# Altium schematic symbol library SamlibSCH.SchLib: 216 symbols (part 4 of 5)
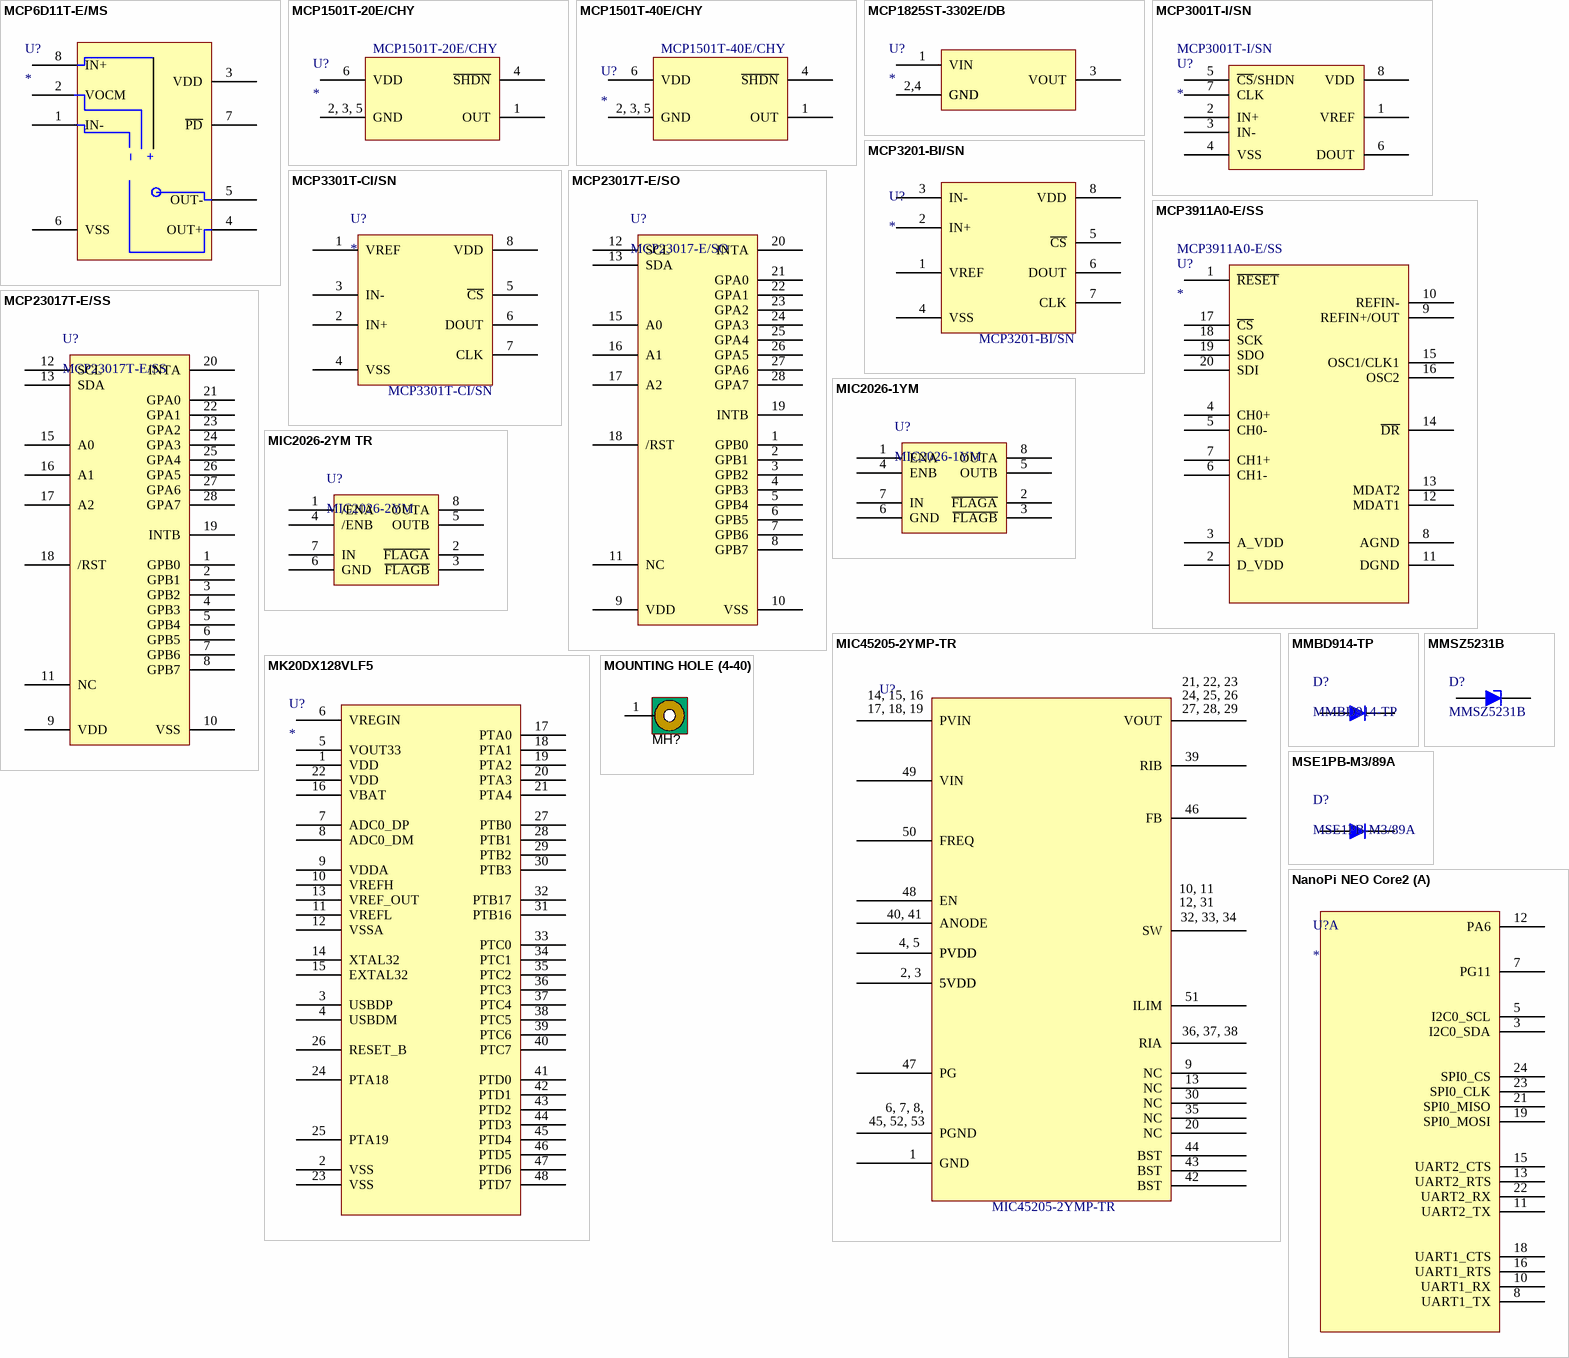
[diagram p10: symbols MCP6D11T-E/MS to NanoPi NEO Core2]

## MCP3001T-I/SN
designator U?  Manufacturer Part Number: MCP3001T-I/SN
IC ADC 10BIT 2.7V 1CH SPI 8-SOIC; Manufacturer: Microchip; Number of Channels: 1; Max Supply Voltage: 5.5V; Resolution: 10b; Number of Bits: 10; Sampling Rate: 200KS/s; Polarity: Unipolar; Integral Nonlinearity (INL): 1LSB; Supplier 1: Digi-Key; Supplier Part Number 1: MCP3001T-I/SNCT-ND; Stock 1: 8173; Pricing 1: 1 = 1.71000, 25 = 1.42160, 100 = 1.29780 (USD); RoHS: Yes; Mount: Surface Mount; Case/Package: SOIC; Number of Pins: 8; Min Operating Temperature: -40°C; Max Operating Temperature: 85°C; Packaging: Tape and Reel; Interface: SPI; Min Supply Voltage: 2.7V; Package Quantity: 3300; Number of Converters: 1; Number of Inputs: 1; Number of A/D Converters: 1; Number of Analog Inputs: 1; Number of Elements: 1; Conversion Rate: 200KS/s; Radiation Hardening: No; Lead Free: Lead Free; ComponentLink1URL: https://datasheet.ciiva.com/4777/21293b-22469-4777280.pdf?src-supplier=Mouser; ComponentLink1Description: https://datasheet.ciiva.com/4777/21293b-22469-4777280.pdf?src-supplier=Mouser; ComponentLink2URL: https://datasheet.ciiva.com/3039/21293c-3039223.pdf?src-supplier=Avnet; ComponentLink2Description: https://datasheet.ciiva.com/3039/21293c-3039223.pdf?src-supplier=Avnet; ComponentLink3URL: https://datasheet.ciiva.com/6666/21293c-6666423.pdf?src-supplier=Digi-Key; ComponentLink3Description: https://datasheet.ciiva.com/6666/21293c-6666423.pdf?src-supplier=Digi-Key; ComponentLink4URL: https://datasheet.ciiva.com/6666/21293c-6666425.pdf?src-supplier=Digi-Key; ComponentLink4Description: https://datasheet.ciiva.com/6666/21293c-6666425.pdf?src-supplier=Digi-Key; ComponentLink5URL: https://datasheet.ciiva.com/16454/filehandler-aspxddocname-en011533-16454217.pdf?src-supplier=Future+Electronics; ComponentLink5Description: https://datasheet.ciiva.com/16454/filehandler-aspxddocname-en011533-16454217.pdf?src-supplier=Future+Electronics; ComponentLink6URL: https://datasheet.ciiva.com/6666/21293c-6666427.pdf?src-supplier=Digi-Key; ComponentLink6Description: https://datasheet.ciiva.com/6666/21293c-6666427.pdf?src-supplier=Digi-Key
footprint SOIC127P600X175-8N (SOIC, 8-Leads, Body 4.9x3.9mm (max), Pitch 1.27mm, IPC Medium Density)
pins: 1 VREF, 2 IN+, 3 IN-, 4 VSS, 5 ~{CS}/SHDN, 6 DOUT, 7 CLK, 8 VDD

## MCP3201-BI/SN
designator U?  Manufacturer Part Number: MCP3201-BI/SN
IC ADC 12BIT SAR 8SOIC; Manufacturer: Microchip; Sampling Rate: 100KS/s; Resolution: 12b; Polarity: Unipolar; Number of Analog Inputs: 1; Interface: SPI,Serial; Max Supply Voltage: 5.5V; Min Supply Voltage: 2.7V; Integral Nonlinearity (INL): 1LSB; Number of Bits: 12; Signal to Noise Ratio (SNR): 72dB; Nominal Supply Current: 300uA; Supplier 1: Digi-Key; Stock 1: 141; Pricing 1: 1=2.66000, 25=2.21000 (USD); RoHS: Yes; Mount: Surface Mount; Case/Package: SOIC; Number of Pins: 8; Min Operating Temperature: -40°C; Max Operating Temperature: 85°C; Package Quantity: 100; Number of Channels: 1; Packaging: Rail/Tube; Number of A/D Converters: 1; Number of Elements: 1; Number of Converters: 1; Conversion Rate: 100KS/s; Number of Inputs: 1; Length: 4.9mm; Height: 1.25mm; Width: 3.9mm; Radiation Hardening: No; Lead Free: Lead Free; REACH SVHC: No SVHC; ComponentLink1URL: https://datasheet.ciiva.com/6666/21290f-6666208.pdf?src-supplier=Digi-Key; ComponentLink1Description: https://datasheet.ciiva.com/6666/21290f-6666208.pdf?src-supplier=Digi-Key; ComponentLink2URL: https://datasheet.ciiva.com/26922/getdatasheetpartid-774476-26922475.pdf?src-supplier=Verical; ComponentLink2Description: https://datasheet.ciiva.com/26922/getdatasheetpartid-774476-26922475.pdf?src-supplier=Verical; ComponentLink3URL: https://datasheet.ciiva.com/41459/001083117-da-01-en-ic-adc-12bit-mcp3201-bi-sn-soic-8-mcp-41459115.pdf?src-supplier=Conrad; ComponentLink3Description: https://datasheet.ciiva.com/41459/001083117-da-01-en-ic-adc-12bit-mcp3201-bi-sn-soic-8-mcp-41459115.pdf?src-supplier=Conrad; ComponentLink4URL: https://datasheet.ciiva.com/3039/21290f-3039236.pdf?src-supplier=Avnet; ComponentLink4Description: https://datasheet.ciiva.com/3039/21290f-3039236.pdf?src-supplier=Avnet; ComponentLink5URL: https://datasheet.ciiva.com/16376/filehandler-aspxddocname-en011279-16376377.pdf?src-supplier=Future+Electronics; ComponentLink5Description: https://datasheet.ciiva.com/16376/filehandler-aspxddocname-en011279-16376377.pdf?src-supplier=Future+Electronics; ComponentLink6URL: https://datasheet.ciiva.com/16625/21290f-16625769.pdf?src-supplier=Avnet+Europe; ComponentLink6Description: https://datasheet.ciiva.com/16625/21290f-16625769.pdf?src-supplier=Avnet+Europe; ComponentLink7URL: https://datasheet.ciiva.com/7647/1669366-7647998.pdf?src-supplier=Element14; ComponentLink7Description: https://datasheet.ciiva.com/7647/1669366-7647998.pdf?src-supplier=Element14; Supplier Part Number 1: MCP3201-BI/SN-ND
footprint SOIC127P600X175-8N (SOIC, 8-Leads, Body 4.9x3.9mm (max), Pitch 1.27mm, IPC Medium Density)
pins: 1 VREF, 2 IN+, 3 IN-, 4 VSS, 5 ~{CS}, 6 DOUT, 7 CLK, 8 VDD

## MCP3301T-CI/SN
designator U?  Manufacturer Part Number: MCP3301T-CI/SN
IC ADC 12BIT SAR 8SOIC; Manufacturer: Microchip; Interface: SPI,Serial; Sampling Rate: 100KS/s; Number of Analog Inputs: 1; Polarity: Bipolar; Min Supply Voltage: 2.7V; Max Supply Voltage: 5.5V; Number of Bits: 13; Resolution: 12b; Integral Nonlinearity (INL): 2LSB; Signal to Noise Ratio (SNR): 80.02dB; Output Voltage: 4.1V; Supplier: Digi-Key; Stock 1: 1402; Pricing 1: 1=2.27000, 25=1.89000 (USD); RoHS: Yes; Mount: Surface Mount; Case/Package: SOIC; Number of Pins: 8; Min Operating Temperature: -40°C; Max Operating Temperature: 85°C; Package Quantity: 3300; Packaging: Tape and Reel; Number of Channels: 1; Number of Converters: 1; Number of Inputs: 1; Number of A/D Converters: 1; Number of Elements: 1; Conversion Rate: 100KS/s; Radiation Hardening: No; Lead Free: Lead Free; ComponentLink1URL: https://datasheet.ciiva.com/16625/21700d-16625957.pdf?src-supplier=Avnet+Europe; ComponentLink1Description: https://datasheet.ciiva.com/16625/21700d-16625957.pdf?src-supplier=Avnet+Europe; ComponentLink2URL: https://datasheet.ciiva.com/8195/21700d-8195295.pdf?src-supplier=Avnet; ComponentLink2Description: https://datasheet.ciiva.com/8195/21700d-8195295.pdf?src-supplier=Avnet; Supplier Part Number: MCP3301T-CI/SNCT-ND
footprint SOIC127P600X175-8N (SOIC, 8-Leads, Body 4.9x3.9mm (max), Pitch 1.27mm, IPC Medium Density)
pins: 1 VREF, 2 IN+, 3 IN-, 4 VSS, 5 ~{CS}, 6 DOUT, 7 CLK, 8 VDD

## MCP3911A0-E/SS
designator U?  Manufacturer Part Number: MCP3911A0-E/SS
IC AFE 24BIT 125KSPS 2CH 20-SSOP; Manufacturer: Microchip; Number of Channels: 2; Interface: SPI; Min Supply Voltage: 2.7V; Operating Supply Voltage: 3.3V; Max Supply Voltage: 3.6V; Data Rate: 125Kbps; Number of Bits: 24; Resolution: 24b; Operating Supply Current: 4.4mA; Sampling Rate: 125KS/s; Reference Voltage: 1.2V; Max Power Dissipation: 8.9mW; Signal to Noise Ratio (SNR): 95dB; Parameter 1: *; Parameter 2: *; Supplier 1: Digi-Key; Supplier Part Number 1: MCP3911A0-E/SS-ND; Stock 1: 4305; Pricing 1: 1 = 2.00000, 25 = 1.66880, 100 = 1.51410 (USD); RoHS: Yes; Case/Package: SSOP; Number of Pins: 20; Contact Plating: Tin; Min Operating Temperature: -40°C; Max Operating Temperature: 125°C; Packaging: Rail/Tube; Package Quantity: 67; Number of Converters: 2; Number of A/D Converters: 2; Conversion Rate: 125KS/s; Type: General Purpose; Length: 7.5mm; Height: 1.85mm; Width: 5.6mm; Radiation Hardening: No; REACH SVHC: No SVHC; Lead Free: Lead Free; ComponentLink1URL: https://datasheet.ciiva.com/1176/1598778-1176946.pdf?src-supplier=Newark; ComponentLink1Description: https://datasheet.ciiva.com/1176/1598778-1176946.pdf?src-supplier=Newark; ComponentLink2URL: https://datasheet.ciiva.com/14667/0900766b811b5c3d-14667720.pdf?src-supplier=RSComponents; ComponentLink2Description: https://datasheet.ciiva.com/14667/0900766b811b5c3d-14667720.pdf?src-supplier=RSComponents; ComponentLink3URL: https://datasheet.ciiva.com/15152/getdatasheetpartid-761813-15152066.pdf?src-supplier=Verical; ComponentLink3Description: https://datasheet.ciiva.com/15152/getdatasheetpartid-761813-15152066.pdf?src-supplier=Verical; ComponentLink4URL: https://datasheet.ciiva.com/14118/mcp3911-v2-errata-eng-tds-14118182.pdf?src-supplier=Distrelec; ComponentLink4Description: https://datasheet.ciiva.com/14118/mcp3911-v2-errata-eng-tds-14118182.pdf?src-supplier=Distrelec; ComponentLink5URL: https://datasheet.ciiva.com/16293/filehandler-aspxddocname-en557697-16293563.pdf?src-supplier=Future+Electronics; ComponentLink5Description: https://datasheet.ciiva.com/16293/filehandler-aspxddocname-en557697-16293563.pdf?src-supplier=Future+Electronics; ComponentLink6URL: https://datasheet.ciiva.com/3026/22286a-3026716.pdf?src-supplier=Avnet; ComponentLink6Description: https://datasheet.ciiva.com/3026/22286a-3026716.pdf?src-supplier=Avnet; ComponentLink7URL: https://datasheet.ciiva.com/1167/22286a-1167485.pdf?src-supplier=Element14; ComponentLink7Description: https://datasheet.ciiva.com/1167/22286a-1167485.pdf?src-supplier=Element14; ComponentLink8URL: https://datasheet.ciiva.com/1941/22286a-1941409.pdf?src-supplier=Digi-Key; ComponentLink8Description: https://datasheet.ciiva.com/1941/22286a-1941409.pdf?src-supplier=Digi-Key
footprint SOP65P780X200-20L (SOP, 20-Leads, Body 7.20x5.30mm, Pitch 0.65mm, IPC High Density)
pins: 1 ~{RESET}, 2 D_VDD, 3 A_VDD, 4 CH0+, 5 CH0-, 6 CH1-, 7 CH1+, 8 AGND, 9 REFIN+/OUT, 10 REFIN-, 11 DGND, 12 MDAT1, 13 MDAT2, 14 ~{DR}, 15 OSC1/CLK1, 16 OSC2, 17 ~{CS}, 18 SCK, 19 SDO, 20 SDI

## MCP23017T-E/SO
designator U?, comment MCP23017-E/SO
IC I/O EXPANDER I2C 16B 28SOIC; Manufacturer: Microchip Technology; Number of I/O: 16; Interface: I²C; Interrupt Output: Yes; Output Type: Push-Pull; Current - Output Source/Sink: 25mA; Frequency - Clock: 1.7MHz; Voltage - Supply: 1.8 V ~ 5.5 V; Packaging: Tube; Features: POR; Operating Temperature: -40°C ~ 125°C; Mounting Type: Surface Mount; Package / Case: 28-SOIC (0.295", 7.50mm Width); Supplier Device Package: 28-SOIC; ComponentLink1URL: http://www.microchip.com/mymicrochip/filehandler.aspx?ddocname=en023709; ComponentLink1Description: http://www.microchip.com/mymicrochip/filehandler.aspx?ddocname=en023709; Supplier 1: Digi-Key; Supplier Part Number 1: MCP23017-E/SO-ND; Manufacturer Part Number: MCP23017-E/SO; RoHS: RoHS Compliant; Category: Integrated Circuits (ICs); Stock: 5139; Pricing: 1=1.2, 25=1, 100=0.91 (USD); Supplier 2: Mouser; Supplier Part Number 2: 579-MCP23017-E/SO
footprint SOIC127P1030X265-28N (SOIC, 28-Leads, Body 17.9x7.5mm (max), Pitch 1.27mm, IPC Medium Density)
pins: 1 GPB0, 2 GPB1, 3 GPB2, 4 GPB3, 5 GPB4, 6 GPB5, 7 GPB6, 8 GPB7, 9 VDD (power), 10 VSS (power), 11 NC, 12 SCL, 13 SDA, 15 A0, 16 A1, 17 A2, 18 /RST, 19 INTB, 20 INTA, 21 GPA0, 22 GPA1, 23 GPA2, 24 GPA3, 25 GPA4, 26 GPA5, 27 GPA6, 28 GPA7

## MCP23017T-E/SS
designator U?
IC I/O EXPANDER 16BIT I2C 28SSOP; Manufacturer: Microchip Technology; Number of I/O: 16; Interface: I²C; Interrupt Output: Yes; Output Type: Push-Pull; Current - Output Source/Sink: 25mA; Frequency - Clock: 1.7MHz; Voltage - Supply: 1.8 V ~ 5.5 V; Packaging: Cut Tape (CT); Features: POR; Operating Temperature: -40°C ~ 125°C; Mounting Type: Surface Mount; Package / Case: 28-SSOP (0.209", 5.30mm Width); Supplier Device Package: 28-SSOP; ComponentLink1URL: http://www.microchip.com/mymicrochip/filehandler.aspx?ddocname=en023709; ComponentLink1Description: http://www.microchip.com/mymicrochip/filehandler.aspx?ddocname=en023709; Supplier 1: Digi-Key; Supplier Part Number 1: MCP23017T-E/SSCT-ND; Manufacturer Part Number: MCP23017T-E/SS; RoHS: RoHS Compliant; Category: Integrated Circuits (ICs); Stock: 4856; Pricing: 1=1.26, 25=1.05, 100=0.95 (USD)
footprint SOP65P780X185-28L (SOP, 28-Leads, Body 10.20x5.30mm, Pitch 0.65mm, IPC High Density)
pins: 1 GPB0, 2 GPB1, 3 GPB2, 4 GPB3, 5 GPB4, 6 GPB5, 7 GPB6, 8 GPB7, 9 VDD (power), 10 VSS (power), 11 NC, 12 SCL, 13 SDA, 15 A0, 16 A1, 17 A2, 18 /RST, 19 INTB, 20 INTA, 21 GPA0, 22 GPA1, 23 GPA2, 24 GPA3, 25 GPA4, 26 GPA5, 27 GPA6, 28 GPA7

## MIC2026-1YM
designator U?
IC DISTRIBUTION SW DUAL 8-SOIC; Manufacturer: Microchip Technology; Switch Type: General Purpose; Number of Outputs: 2; Ratio - Input:Output: 1:2; Output Configuration: High Side; Output Type: N-Channel; Interface: On/Off; Voltage - Load: 2.7 V ~ 5.5 V; Voltage - Supply (Vcc/Vdd): Not Required; Current - Output (Max): 500mA; Rds On (Typ): 90 mOhm; Input Type: Non-Inverting; Fault Protection: Current Limiting (Fixed), Over Temperature, UVLO; Packaging: Tube; Features: Slew Rate Controlled, Status Flag; Operating Temperature: -40°C ~ 85°C (TA); Package / Case: 8-SOIC (0.154", 3.90mm Width); Supplier Device Package: 8-SOIC; ComponentLink1URL: http://www.micrel.com/_PDF/mic2026.pdf; ComponentLink1Description: http://www.micrel.com/_PDF/mic2026.pdf; Supplier 1: Digi-Key; Supplier Part Number 1: 576-2137-ND; Manufacturer Part Number: MIC2026-1YM; RoHS: RoHS Compliant; Category: Integrated Circuits (ICs); Stock: 11334; Pricing: 1=1, 25=0.84, 100=0.76 (USD)
footprint SOIC127P600X175-8N (SOIC, 8-Leads, Body 4.9x3.9mm (max), Pitch 1.27mm, IPC Medium Density)
pins: 1 ENA, 2 ~{FLAGA}, 3 ~{FLAGB}, 4 ENB, 5 OUTB, 6 GND (power), 7 IN, 8 OUTA

## MIC2026-2YM TR
designator U?, comment MIC2026-2YM
IC SW DISTRIBUTION 2CHAN 8SOIC; Manufacturer: Microchip Technology; Switch Type: General Purpose; Number of Outputs: 2; Ratio - Input:Output: 1:2; Output Configuration: High Side; Output Type: N-Channel; Interface: On/Off; Voltage - Load: 2.7 V ~ 5.5 V; Voltage - Supply (Vcc/Vdd): Not Required; Current - Output (Max): 500mA; Rds On (Typ): 90 mOhm; Input Type: Non-Inverting; Fault Protection: Current Limiting (Fixed), Over Temperature, UVLO; Packaging: Tube; Features: Slew Rate Controlled, Status Flag; Operating Temperature: -40°C ~ 85°C (TA); Package / Case: 8-SOIC (0.154", 3.90mm Width); Supplier Device Package: 8-SOIC; ComponentLink1URL: http://www.micrel.com/_PDF/mic2026.pdf; ComponentLink1Description: http://www.micrel.com/_PDF/mic2026.pdf; Supplier 1: Digi-Key; Supplier Part Number 1: 576-3364-5-ND; Manufacturer Part Number: MIC2026-2YM; RoHS: RoHS Compliant; Category: Integrated Circuits (ICs); Stock: 18270; Pricing: 1=1.33, 10=1.178, 50=1.064, 100=0.931, 250=0.817, 500=0.722, 1000=0.57, 2500=0.532, 5000=0.5054 (USD); Supplier 2: Digi-Key; Supplier Part Number 2: 576-1060-1-ND
footprint SOIC127P600X175-8N (SOIC, 8-Leads, Body 4.9x3.9mm (max), Pitch 1.27mm, IPC Medium Density)
pins: 1 /ENA, 2 ~{FLAGA}, 3 ~{FLAGB}, 4 /ENB, 5 OUTB, 6 GND (power), 7 IN, 8 OUTA

## MIC45205-2YMP-TR
designator U?  Manufacturer Part Number: MIC45205-2YMP-TR  (hidden comment: *)
DC DC CONVERTER 0.8-5.5V; Manufacturer: Microchip; Number of Outputs: 1; Min Input Voltage: 4.5V; Max Input Voltage: 26V; Voltage - Output 1: 5.5V; Max Output Current: 6A; Efficiency: 93%; Supplier 1: Digi-Key; Supplier Part Number 1: MIC45205-1YMP-CT-ND; Stock 1: 1494; Pricing 1: 1 = 6.48000, 25 = 5.39720, 100 = 4.90280 (USD); Mount: Surface Mount; Case/Package: QFN; Min Operating Temperature: -40°C; Max Operating Temperature: 125°C; Packaging: Tape and Reel; Features: OCP; Length: 0.31inch; Height: 0.12inch; Width: 0.31inch; Lead Free: Lead Free; ComponentLink1URL: http://www.microchip.com/mymicrochip/filehandler.aspx?ddocname=en579208&src-supplier=Digi-Key; ComponentLink1Description: http://www.microchip.com/mymicrochip/filehandler.aspx?ddocname=en579208&src-supplier=Digi-Key; ComponentLink2URL: http://datasheet.octopart.com/MIC45205-1YMP-TR-Microchip-datasheet-62314901.pdf?src-supplier=TME; ComponentLink2Description: http://datasheet.octopart.com/MIC45205-1YMP-TR-Microchip-datasheet-62314901.pdf?src-supplier=TME; ComponentLink3URL: http://datasheet.octopart.com/MIC45205-1YMP-TR-Microchip-datasheet-26767812.pdf?src-supplier=Future+Electronics; ComponentLink3Description: http://datasheet.octopart.com/MIC45205-1YMP-TR-Microchip-datasheet-26767812.pdf?src-supplier=Future+Electronics
footprint QFN-52 (8x8) (52-PowerBFQFN)
pins: 1 GND, 2 5VDD, 3 5VDD, 4 PVDD, 5 PVDD, 6 PGND, 7 PGND, 8 PGND, 9 NC, 10 SW, 11 SW, 12 SW, 13 NC, 14 PVIN, 15 PVIN, 16 PVIN, 17 PVIN, 18 PVIN, 19 PVIN, 20 NC, 21 VOUT, 22 VOUT, 23 VOUT, 24 VOUT, 25 VOUT, 26 VOUT, 27 VOUT, 28 VOUT, 29 VOUT, 30 NC, 31 SW, 32 SW, 33 SW, 34 SW, 35 NC, 36 RIA, 37 RIA, 38 RIA, 39 RIB, 40 ANODE, 41 ANODE, 42 BST, 43 BST, 44 BST, 45 PGND, 46 FB, 47 PG, 48 EN, 49 VIN, 50 FREQ, 51 ILIM, 52 PGND, 53 PGND
text: 21, 22, 23; 14, 15, 16; 24, 25, 26; 17, 18, 19; 27, 28, 29; 10, 11; 12, 31; 40, 41; 32, 33, 34; 4, 5; 2, 3; 36, 37, 38; 6, 7, 8,; 45, 52, 53

## MK20DX128VLF5
designator U?
IC MCU 32BIT 128KB FLASH 48LQFP; Manufacturer 1: NXP Freescale; Manufacturer Part Number 1: MK20DX128VLF5; Min Supply Voltage: 1.71V; Max Supply Voltage: 3.6V; Frequency: 50MHz; RAM Size: 16KB; Interface: I2C,SPI,USB,IrDA,UART,USART,I2S; Number of Timers/Counters: 14; Data Bus Width: 32b; Number of I/Os: 29; Oscillator Type: Internal; Number of USB Channels: 1; Number of UART Channels: 3; Peripherals: POR,PWM,WDT,DMA,LVD,I2C; Core Architecture: ARM; Supplier 1: Digi-Key; Stock 1: 5668; Pricing 1: 1=6.37000, 10=5.71700, 25=5.40440, 100=4.68390, 500=3.98732, 1000=3.36280 (USD); RoHS: Yes; Mount: Surface Mount; Case/Package: LQFP; Number of Pins: 48; Weight: 0.006288oz; Min Operating Temperature: -40°C; Max Operating Temperature: 105°C; Packaging: Tray; Package Quantity: 250; Max Frequency: 50MHz; Number of ADC Channels: 1; Number of SPI Channels: 1; Number of I2C Channels: 1; Memory Type: FLASH; Memory Size: 128KB; Length: 7mm; Height: 1.6mm; Width: 7mm; Radiation Hardening: No; REACH SVHC: No SVHC; Lead Free: Lead Free; Halogen Free: Halogen Free; ComponentLink1URL: https://datasheet.ciiva.com/7780/1651096-7780208.pdf?src-supplier=Element14; ComponentLink1Description: https://datasheet.ciiva.com/7780/1651096-7780208.pdf?src-supplier=Element14; ComponentLink2URL: https://datasheet.ciiva.com/41452/001183412-da-01-en-ergaenzung-ic-arm-cortex-mk20dx128vlf5-l-41452896.pdf?src-supplier=Conrad; ComponentLink2Description: https://datasheet.ciiva.com/41452/001183412-da-01-en-ergaenzung-ic-arm-cortex-mk20dx128vlf5-l-41452896.pdf?src-supplier=Conrad; ComponentLink3URL: https://datasheet.ciiva.com/6654/k20p48m50sf0-6654472.pdf?src-supplier=Digi-Key; ComponentLink3Description: https://datasheet.ciiva.com/6654/k20p48m50sf0-6654472.pdf?src-supplier=Digi-Key; ComponentLink4URL: https://datasheet.ciiva.com/9232/k20p48m50sf0-9232716.pdf?src-supplier=Avnet; ComponentLink4Description: https://datasheet.ciiva.com/9232/k20p48m50sf0-9232716.pdf?src-supplier=Avnet; Supplier Part Number 1: MK20DX128VLF50-ND
footprint TSQFP50P900X900X160-48N (TSQFP, 48-Leads, Body 7.00x7.00mm, Pitch 0.50mm, IPC Medium Density)
pins: 1 VDD, 2 VSS, 3 USBDP, 4 USBDM, 5 VOUT33, 6 VREGIN, 7 ADC0_DP, 8 ADC0_DM, 9 VDDA, 10 VREFH, 11 VREFL, 12 VSSA, 13 VREF_OUT, 14 XTAL32, 15 EXTAL32, 16 VBAT, 17 PTA0, 18 PTA1, 19 PTA2, 20 PTA3, 21 PTA4, 22 VDD, 23 VSS, 24 PTA18, 25 PTA19, 26 RESET_B, 27 PTB0, 28 PTB1, 29 PTB2, 30 PTB3, 31 PTB16, 32 PTB17, 33 PTC0, 34 PTC1, 35 PTC2, 36 PTC3, 37 PTC4, 38 PTC5, 39 PTC6, 40 PTC7, 41 PTD0, 42 PTD1, 43 PTD2, 44 PTD3, 45 PTD4, 46 PTD5, 47 PTD6, 48 PTD7

## MMBD914-TP
designator D?
DIODE GEN PURP 75V 150MA SOT23; Manufacturer: Micro Commercial Co; Diode Type: Standard; Voltage - Forward (Vf) (Max) @ If: 855mV @ 10mA; Speed: Small Signal =< 200mA (Io), Any Speed; Reverse Recovery Time (trr): 4ns; Current - Reverse Leakage @ Vr: 25nA @ 20V; Capacitance @ Vr, F: 2pF @ 0V, 1MHz; Packaging: Cut Tape (CT); Voltage - DC Reverse (Vr) (Max): 75V; Current - Average Rectified (Io): 150mA; Mounting Type: Surface Mount; Package / Case: TO-236-3, SC-59, SOT-23-3; Supplier Device Package: SOT-23; Operating Temperature - Junction: -55°C ~ 150°C; ComponentLink1URL: http://www.mccsemi.com/up_pdf/MMBD914(SOT-23).pdf; ComponentLink1Description: http://www.mccsemi.com/up_pdf/MMBD914(SOT-23).pdf; Supplier 1: Digi-Key; Supplier Part Number 1: MMBD914TPMSCT-ND; Manufacturer Part Number: MMBD914-TP; RoHS: RoHS Compliant; Category: Discrete Semiconductor Products; Stock: 40010; Pricing: 1=0.14, 10=0.125, 25=0.1132, 100=0.0816, 250=0.04804, 500=0.03986, 1000=0.02719 (USD); Supplier 2: Mouser; Supplier Part Number 2: 833-MMBD914-TP
footprint SOT23-3M (SOT23, 3-Leads, Body 2.9x1.3mm, Pitch 0.95mm, Lead Span 2.5mm, IPC Low Density)
pins: 1, 3

## MMSZ5231B
designator D?
DIODE ZENER 5.1V 500MW SOD123; Manufacturer: Fairchild Semiconductor; Tolerance: ±5%; Impedance (Max) (Zzt): 17 Ohm; Current - Reverse Leakage @ Vr: 5µA @ 2V; Voltage - Forward (Vf) (Max) @ If: 900mV @ 10mA; Packaging: Cut Tape (CT); Voltage - Zener (Nom) (Vz): 5.1V; Power - Max: 500mW; Operating Temperature: -55°C ~ 150°C; Mounting Type: Surface Mount; Package / Case: SOD-123; Supplier Device Package: SOD-123; ComponentLink1URL: http://www.fairchildsemi.com/datasheets/MM/MMSZ5226B.pdf; ComponentLink1Description: http://www.fairchildsemi.com/datasheets/MM/MMSZ5226B.pdf; Supplier 1: Digi-Key; Supplier Part Number 1: MMSZ5231BFSCT-ND; Manufacturer Part Number: MMSZ5231B; RoHS: RoHS Compliant; Category: Discrete Semiconductor Products; Stock 1: 28428; Pricing: 1=0.21, 10=0.171, 100=0.0904, 500=0.05944, 1000=0.0405 (USD)
footprint SOD-123 (SOD-123, 2-Leads, Body 1.60x3.75mm, IPC Low Density)
pins: 1, 2

## MOUNTING HOLE (4-40)
designator MH?, comment MTG 4-40  (value not drawn)  (no BOM)
PCB Mounting Hole; Manufacturer: Any; CompType: Mounting Hole; LatestRevisionDate: 2015-04-28
footprint MTGP_4-40_PanHead
footprint MTGP_4-40_Washer
footprint MTGP_6-32_PanHead
footprint MTGP_6-32_Washer
footprint 9775026360R M3 STANDOFF (ROUND STANDOFF M3 STEEL 1MM)
footprint 2MM HEAT STAKE HOLE
pins: 1

## MSE1PB-M3/89A
designator D?
DIODE GEN PURP 100V 1A MICROSMP; Manufacturer: Vishay Semiconductor Diodes Division; Diode Type: Standard; Voltage - Forward (Vf) (Max) @ If: 1.1V @ 1A; Speed: Standard Recovery >500ns, > 200mA (Io); Reverse Recovery Time (trr): 780ns; Current - Reverse Leakage @ Vr: 1µA @ 100V; Capacitance @ Vr, F: 5pF @ 4V, 1MHz; Packaging: Cut Tape (CT); Voltage - DC Reverse (Vr) (Max): 100V; Current - Average Rectified (Io): 1A; Mounting Type: Surface Mount; Package / Case: MicroSMP; Supplier Device Package: MicroSMP; Operating Temperature - Junction: -55°C ~ 175°C; ComponentLink1URL: http://www.vishay.com/docs/89067/mse1pj.pdf; ComponentLink1Description: http://www.vishay.com/docs/89067/mse1pj.pdf; Supplier 1: Digi-Key; Supplier Part Number 1: MSE1PB-M3/89AGICT-ND; Manufacturer Part Number: MSE1PB-M3/89A; RoHS: RoHS Compliant; Category: Discrete Semiconductor Products; Stock: 46166; Pricing: 1=0.37, 10=0.305, 100=0.1614, 500=0.10616, 1000=0.07233 (USD)
footprint MicroSMP (Vishay MICROSMP)
pins: 1, 2

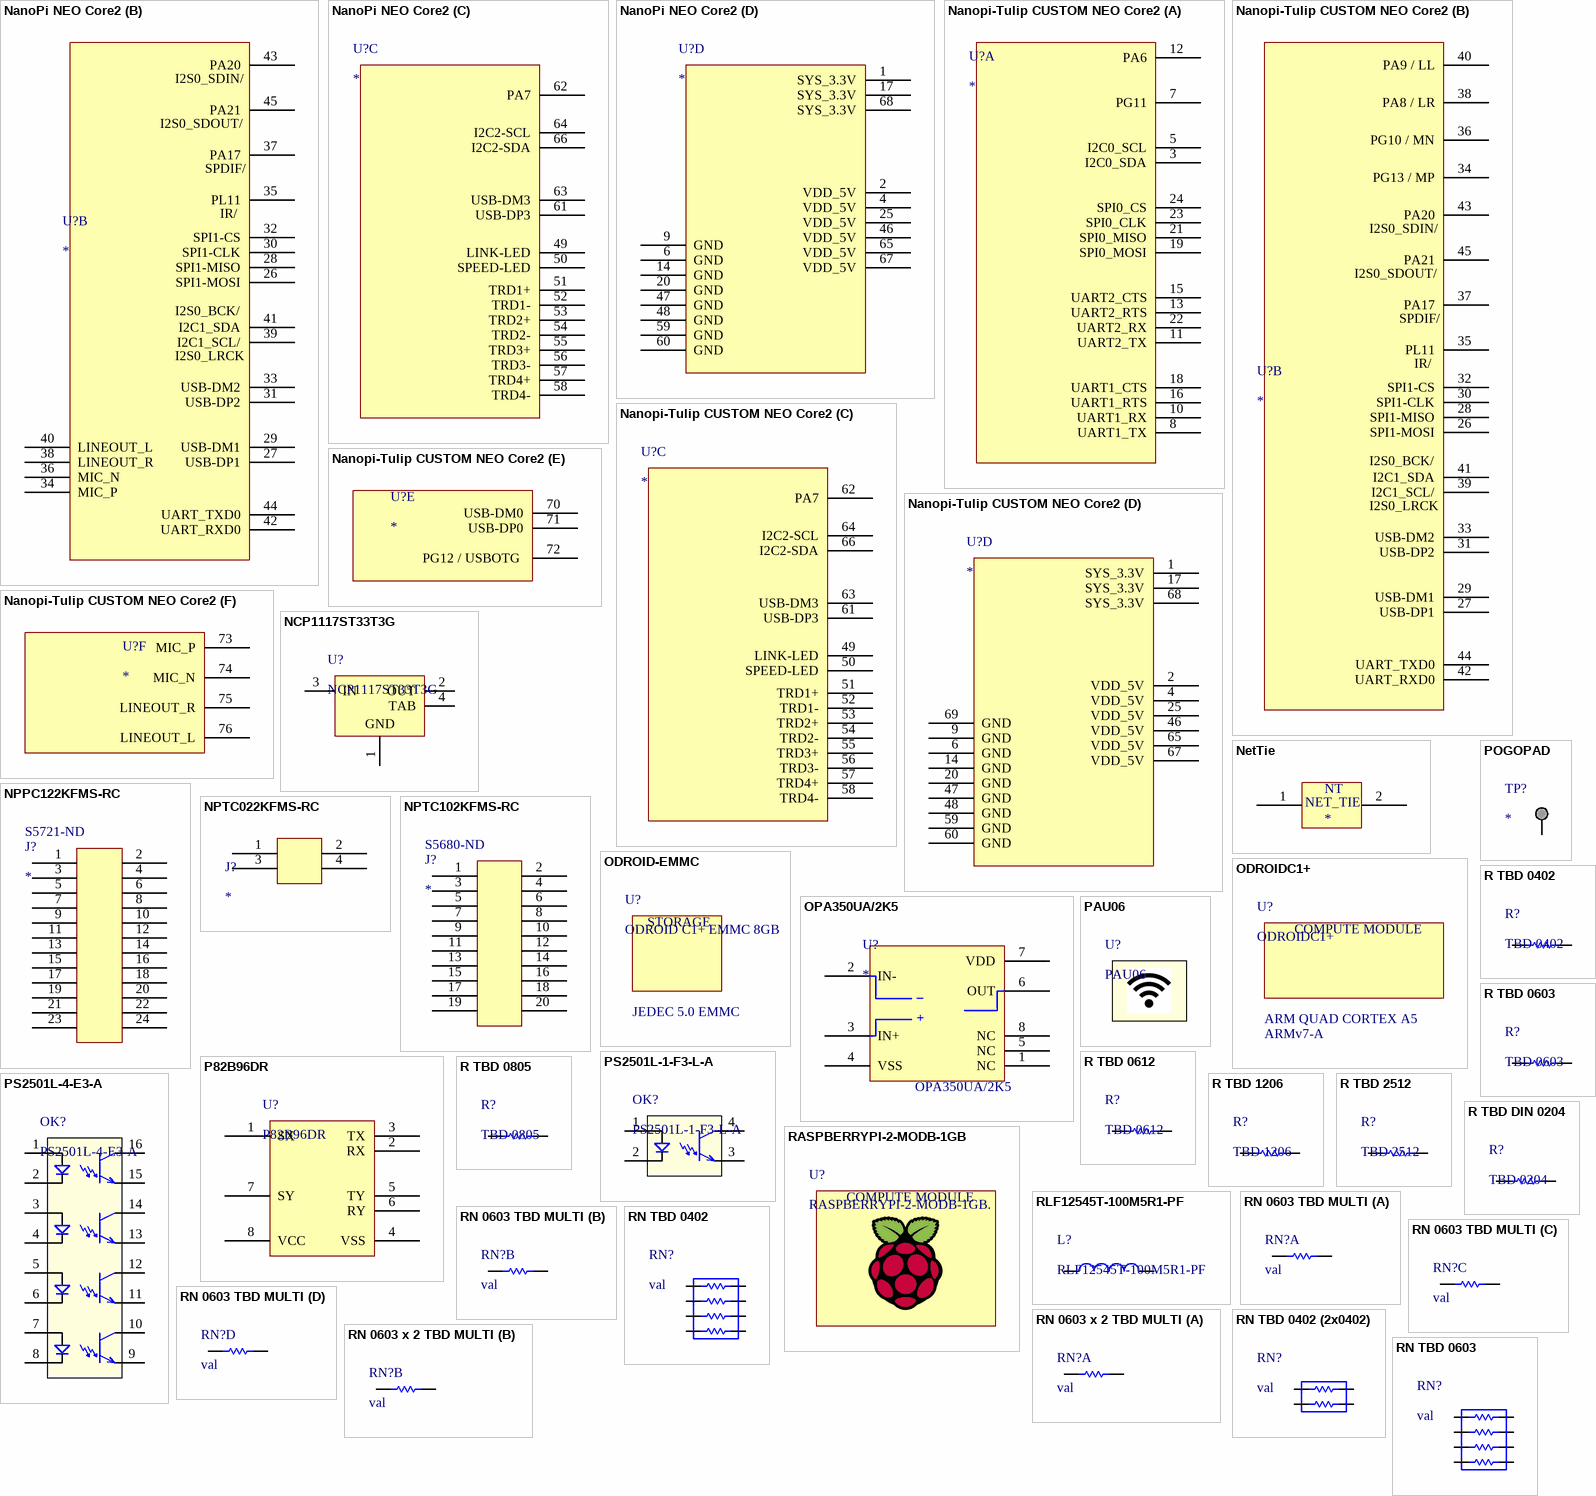
[diagram p5: symbols NanoPi NEO Core2 to RN TBD 0603]

## NanoPi NEO Core2
designator U?
ALLWINNER H5, 64B QUAD-CORE; Manufacturer Part Number: NanoPi NEO Core2 LTS, 512M RAM, 8G eMMC; Manufacturer: FriendlyArm; ComponentLink1Description: Schematic; ComponentLink1URL: http://wiki.friendlyarm.com/wiki/images/6/6b/NanoPi_NEO_Core2-V1.0_1707.pdf; ComponentLink2Description: Wiki; ComponentLink2URL: http://wiki.friendlyarm.com/wiki/index.php/NanoPi_NEO_Core2; Price @ 1000: $24.00; Supplier: FriendlyArm; Price @ 250: $26.00; Price @ 500: $25.00
footprint NANOPI_CORE2 - SMT (Allwinner H5, Quad-core 64-bit high-performance Cortex A53)
footprint NANOPI_CORE2 - SMT - PADS ONLY (Allwinner H5, Quad-core 64-bit high-performance Cortex A53)
part A pins: 3 I2C0_SDA, 5 I2C0_SCL, 7 PG11, 8 UART1_TX, 10 UART1_RX, 11 UART2_TX, 12 PA6, 13 UART2_RTS, 15 UART2_CTS, 16 UART1_RTS, 18 UART1_CTS, 19 SPI0_MOSI, 21 SPI0_MISO, 22 UART2_RX, 23 SPI0_CLK, 24 SPI0_CS
part B pins: 26 SPI1-MOSI, 27 USB-DP1, 28 SPI1-MISO, 29 USB-DM1, 30 SPI1-CLK, 31 USB-DP2, 32 SPI1-CS, 33 USB-DM2, 34 MIC_P, 35 PL11, 36 MIC_N, 37 PA17, 38 LINEOUT_R, 39 I2C1_SCL/, 40 LINEOUT_L, 41 I2C1_SDA, 42 UART_RXD0, 43 PA20, 44 UART_TXD0, 45 PA21
part C pins: 49 LINK-LED, 50 SPEED-LED, 51 TRD1+, 52 TRD1-, 53 TRD2+, 54 TRD2-, 55 TRD3+, 56 TRD3-, 57 TRD4+, 58 TRD4-, 61 USB-DP3, 62 PA7, 63 USB-DM3, 64 I2C2-SCL, 66 I2C2-SDA
part D pins: 1 SYS_3.3V (power), 2 VDD_5V (power), 4 VDD_5V (power), 6 GND (power), 9 GND (power), 14 GND (power), 17 SYS_3.3V (power), 20 GND (power), 25 VDD_5V (power), 46 VDD_5V (power), 47 GND (power), 48 GND (power), 59 GND (power), 60 GND (power), 65 VDD_5V (power), 67 VDD_5V (power), 68 SYS_3.3V (power)
part B text: I2S0_SDIN/; I2S0_SDOUT/; SPDIF/; IR/; I2S0_BCK/; I2S0_LRCK

## Nanopi-Tulip CUSTOM NEO Core2
designator U?
ALLWINNER H5, 2GB RAM, 64B QUAD-CORE; Manufacturer Part Number: NanoPi NEO Core2 LTS, 512M RAM, 8G eMMC; Manufacturer: FriendlyArm; ComponentLink1Description: Schematic; ComponentLink1URL: http://wiki.friendlyarm.com/wiki/images/6/6b/NanoPi_NEO_Core2-V1.0_1707.pdf; ComponentLink2Description: Wiki; ComponentLink2URL: http://wiki.friendlyarm.com/wiki/index.php/NanoPi_NEO_Core2; Price @ 1000: $24.00; Supplier: FriendlyArm; Price @ 250: $26.00; Price @ 500: $25.00
footprint NANOPI_CORE2 - SMT (Allwinner H5, Quad-core 64-bit high-performance Cortex A53)
footprint NANOPI_CORE2 - SMT - PADS ONLY (Allwinner H5, Quad-core 64-bit high-performance Cortex A53)
part A pins: 3 I2C0_SDA, 5 I2C0_SCL, 7 PG11, 8 UART1_TX, 10 UART1_RX, 11 UART2_TX, 12 PA6, 13 UART2_RTS, 15 UART2_CTS, 16 UART1_RTS, 18 UART1_CTS, 19 SPI0_MOSI, 21 SPI0_MISO, 22 UART2_RX, 23 SPI0_CLK, 24 SPI0_CS
part B pins: 26 SPI1-MOSI, 27 USB-DP1, 28 SPI1-MISO, 29 USB-DM1, 30 SPI1-CLK, 31 USB-DP2, 32 SPI1-CS, 33 USB-DM2, 34 PG13 / MP, 35 PL11, 36 PG10 / MN, 37 PA17, 38 PA8 / LR, 39 I2C1_SCL/, 40 PA9 / LL, 41 I2C1_SDA, 42 UART_RXD0, 43 PA20, 44 UART_TXD0, 45 PA21
part C pins: 49 LINK-LED, 50 SPEED-LED, 51 TRD1+, 52 TRD1-, 53 TRD2+, 54 TRD2-, 55 TRD3+, 56 TRD3-, 57 TRD4+, 58 TRD4-, 61 USB-DP3, 62 PA7, 63 USB-DM3, 64 I2C2-SCL, 66 I2C2-SDA
part D pins: 1 SYS_3.3V (power), 2 VDD_5V (power), 4 VDD_5V (power), 6 GND (power), 9 GND (power), 14 GND (power), 17 SYS_3.3V (power), 20 GND (power), 25 VDD_5V (power), 46 VDD_5V (power), 47 GND (power), 48 GND (power), 59 GND (power), 60 GND (power), 65 VDD_5V (power), 67 VDD_5V (power), 68 SYS_3.3V (power), 69 GND
part E pins: 70 USB-DM0, 71 USB-DP0, 72 PG12 / USBOTG 
part F pins: 73 MIC_P, 74 MIC_N, 75 LINEOUT_R, 76 LINEOUT_L
part B text: I2S0_SDIN/; I2S0_SDOUT/; SPDIF/; IR/; I2S0_BCK/; I2S0_LRCK

## NCP1117ST33T3G
designator U?
IC REG LDO 3.3V 1A SOT223; Manufacturer: ON Semiconductor; Regulator Topology: Positive Fixed; Voltage - Dropout (Typical): 1.07V @ 800mA; Number of Regulators: 1; Voltage - Input: Up to 20V; Packaging: Cut Tape (CT); Voltage - Output: 3.3V; Current - Output: 1A; Current - Limit (Min): 1A; Operating Temperature: 0°C ~ 125°C; Mounting Type: Surface Mount; Package / Case: TO-261-4, TO-261AA; Supplier Device Package: SOT-223; ComponentLink1URL: http://www.onsemi.com/pub_link/Collateral/NCP1117-D.PDF; ComponentLink1Description: http://www.onsemi.com/pub_link/Collateral/NCP1117-D.PDF; Supplier 1: Digi-Key; Supplier Part Number 1: NCP1117ST33T3GOSCT-ND; Manufacturer Part Number: NCP1117ST33T3G; RoHS: RoHS Compliant; Category: Integrated Circuits (ICs); Stock: 13988; Pricing: 1=0.46, 10=0.392, 100=0.2925, 500=0.22972, 1000=0.1771 (USD)
footprint SOT230P700X180-4L (SOT223, 4-Leads, Body 6.50x7.00mm (avg), Pitch 2.30mm, IPC High Density)
pins: 1 GND (power), 2 OUT (power), 3 IN (power), 4 TAB (power)

## NetTie
designator NT  (net tie, no BOM)
NET_TIE FOR EDGE
footprint NetTie (Net Tie for EDGE)
pins: 1, 2
text: NET_TIE

## NPPC122KFMS-RC
designator J?  Supplier Part Number 1: S5721-ND
CONN HDR 24POS 0.1 GOLD SMD; Manufacturer: Sullins; Manufacturer Part Number: NPPC122KFMS-RC; Number of Positions: 24; Connector Type: Header,Socket; Pitch: 0.1inch; ComponentLink1URL: https://datasheet.ciiva.com/16730/95278-16730392.pdf?src-supplier=Avnet+Europe; ComponentLink1Description: https://datasheet.ciiva.com/16730/95278-16730392.pdf?src-supplier=Avnet+Europe; ComponentLink2URL: https://datasheet.ciiva.com/720/95278-720954.pdf?src-supplier=Digi-Key; ComponentLink2Description: https://datasheet.ciiva.com/720/95278-720954.pdf?src-supplier=Digi-Key; ComponentLink3URL: https://datasheet.ciiva.com/10124/95278-10124300.pdf?src-supplier=Avnet; ComponentLink3Description: https://datasheet.ciiva.com/10124/95278-10124300.pdf?src-supplier=Avnet; Supplier 1: Digi-Key; Stock 1: 3; Pricing 1: 1=2.42000, 10=2.32600, 100=1.93860, 500=1.64782, 1000=1.40549, 5000=1.40010 (USD); RoHS: Yes; Mount: Surface Mount; Color: Black; Contact Plating: Gold; Contact Material: Bronze; Housing Color: Black; Housing Material: Nylon; Package Quantity: 1000; Number of Rows: 2; Packaging: Bulk; Termination: Solder; Length: 31mm; Height: 7.1mm; Row Spacing: 0.1inch; Width: 5mm; Lead Free: Lead Free; ComponentLink4URL: https://datasheet.ciiva.com/745/npxcxx2kfmx-rc10488-d-745448.pdf?src-supplier=Digi-Key; ComponentLink4Description: https://datasheet.ciiva.com/745/npxcxx2kfmx-rc10488-d-745448.pdf?src-supplier=Digi-Key
footprint FHEADER SMD 24POS 2.54MM (CONN HEADER SMD 24POS 2.54MM)
pins: 1, 2, 3, 4, 5, 6, 7, 8, 9, 10, 11, 12, 13, 14, 15, 16, 17, 18, 19, 20, 21, 22, 23, 24

## NPTC022KFMS-RC
designator J?
CONN HDR 4POS 0.1 TIN SMD; Manufacturer: Sullins; Manufacturer Part Number 1: NPTC022KFMS-RC; Number of Positions: 4; Connector Type: Header,Socket; Pitch: 0.1inch; Supplier: Digi-Key; RoHS: Yes; Category: Connectors; Stock 1: 4532; Pricing 1: 1=0.71000, 10=0.62400, 100=0.53860, 500=0.44064, 1000=0.39168, 5000=0.35360 (USD); Mount: Surface Mount; Contact Plating: Tin; Contact Material: Bronze; Housing Color: Black; Color: Black; Housing Material: Nylon; Termination: Solder; Package Quantity: 1000; Number of Rows: 2; Packaging: Bulk; Length: 5.58mm; Width: 5mm; Height: 7.1mm; Row Spacing: 0.1inch; Lead Free: Lead Free; ComponentLink1URL: https://datasheet.ciiva.com/745/npxcxx2kfmx-rc10488-d-745399.pdf?src-supplier=Digi-Key; ComponentLink1Description: https://datasheet.ciiva.com/745/npxcxx2kfmx-rc10488-d-745399.pdf?src-supplier=Digi-Key
pins: 1, 2, 3, 4

## NPTC102KFMS-RC
designator J?  Supplier Part Number 1: S5680-ND
CONN RCPT 20POS 0.1 TIN SMD; Manufacturer 1: Sullins; Manufacturer Part Number 1: NPTC102KFMS-RC; Number of Positions: 20; Connector Type: Header,Socket; Pitch: 0.1inch; ComponentLink1URL: https://datasheet.ciiva.com/724/95278-724975.pdf?src-supplier=Digi-Key; ComponentLink1Description: https://datasheet.ciiva.com/724/95278-724975.pdf?src-supplier=Digi-Key; ComponentLink2URL: https://datasheet.ciiva.com/16730/95278-16730716.pdf?src-supplier=Avnet+Europe; ComponentLink2Description: https://datasheet.ciiva.com/16730/95278-16730716.pdf?src-supplier=Avnet+Europe; Supplier 1: Digi-Key; Stock 1: 1348; Pricing 1: 1=2.13000, 10=1.93400, 100=1.65750, 500=1.38128, 1000=1.18395, 5000=1.14010 (USD); RoHS: Yes; Mount: Surface Mount; Color: Black; Contact Plating: Tin; Contact Material: Bronze; Housing Color: Black; Housing Material: Nylon; Package Quantity: 1000; Number of Rows: 2; Packaging: Bulk; Termination: Solder; Length: 25.9mm; Height: 7.1mm; Row Spacing: 0.1inch; Width: 5mm; Lead Free: Lead Free; ComponentLink3URL: https://datasheet.ciiva.com/745/npxcxx2kfmx-rc10488-d-745407.pdf?src-supplier=Digi-Key; ComponentLink3Description: https://datasheet.ciiva.com/745/npxcxx2kfmx-rc10488-d-745407.pdf?src-supplier=Digi-Key
footprint FHEADER SMD 20POS 2.54MM (CONN HEADER SMD 20POS 2.54MM)
pins: 1, 2, 3, 4, 5, 6, 7, 8, 9, 10, 11, 12, 13, 14, 15, 16, 17, 18, 19, 20

## ODROID-EMMC
designator U?, comment ODROID C1+ EMMC 8GB  Core Architecture: JEDEC 5.0 EMMC  (mechanical)
ODROID 8GB EMMC MODULE; Silicon Manufacturer: Toshiba; No. of Bits: 32; Core Sub-Architecture: THGBMFG6C1LBAIT; Supplier 1: Ameridroid; Manufacturer: ODROID; Manufacturer Part Number: ODROID C1+ EMMC 8GB; RoHS: YES; Pricing 1: 1=25.95 (USD); Silicon Core Number: -; Silicon Family Name: -; Kit Contents: ODROID C1+ EMMC; ComponentLink1URL: http://www.hardkernel.com/main/products/prdt_info.php?g_code=G141578608433&tab_idx=2; ComponentLink1Description: http://www.hardkernel.com/main/products/prdt_info.php?g_code=G141578608433&tab_idx=2; Supplier Part Number 1: SKU0059
footprint RPI (Raspberry Pi B+ & Raspberry Pi 2)
footprint RPI MECH ONLY (Raspberry Pi B+ & Raspberry Pi 2)
footprint RPI (Raspberry Pi B+ & Raspberry Pi 2)
text: STORAGE

## ODROIDC1+
designator U?  Core Architecture: ARM QUAD CORTEX A5  Core Sub-Architecture: ARMv7-A  (net tie, no BOM)
QUAD CORTEX A5/ARMv7-A; Manufacturer: ODROID; Silicon Manufacturer: Amlogic; Silicon Core Number: S805; Silicon Family Name: S8; No. of Bits: 32; Supplier 1: Ameridroid; Manufacturer Part Number: ODROIDC1+; RoHS: YES; Pricing 1: 1=33.95 (USD); Kit Contents: ODROID C1+; ComponentLink1URL: http://www.hardkernel.com/main/products/prdt_info.php?g_code=G141578608433&tab_idx=2; ComponentLink1Description: http://www.hardkernel.com/main/products/prdt_info.php?g_code=G141578608433&tab_idx=2; Supplier Part Number 1: SKU0058A
footprint RPI (Raspberry Pi B+ & Raspberry Pi 2)
footprint RPI MECH ONLY (Raspberry Pi B+ & Raspberry Pi 2)
footprint RPI (Raspberry Pi B+ & Raspberry Pi 2)
text: COMPUTE MODULE

## OPA350UA/2K5
designator U?  Manufacturer Part Number: OPA350UA/2K5
IC OPAMP GP 1 CIRCUIT 8SOIC; Manufacturer: Texas Instruments; Unity Gain Bandwidth Product: 38MHz; Max Supply Voltage: 5.5V; Min Supply Voltage: 2.7V; Nominal Supply Current: 7.5mA; Voltage Gain: 122dB; Common Mode Rejection Ratio: 66dB; Number of Channels: 1; Slew Rate: 22V/µs; Max I/O Voltage: 1mV; Input Bias Current: 10pA; Input Offset Voltage (Vos): 500uV; Operating Supply Current: 5.2mA; Output Current per Channel: 40mA; Power Supply Rejection Ratio (PSRR): 87.96dB; Supplier: Digi-Key; Stock 1: 2506; Pricing 1: 1=2.76000, 10=2.48100, 25=2.34520, 100=1.92840, 250=1.73032, 500=1.66778, 1000=1.38634 (USD); RoHS: Yes; Case/Package: D; Number of Pins: 8; Weight: 0.002677oz; Contact Plating: Gold; Min Operating Temperature: -40°C; Max Operating Temperature: 85°C; Packaging: Tape and Reel; Package Quantity: 2500; Number of Circuits: 1; Gain Bandwidth Product: 38MHz; Number of Elements: 1; Bandwidth: 38MHz; Radiation Hardening: No; Lead Free: Lead Free; ComponentLink1URL: https://datasheet.ciiva.com/1814/opa350-1814331.pdf?src-supplier=Digi-Key; ComponentLink1Description: https://datasheet.ciiva.com/1814/opa350-1814331.pdf?src-supplier=Digi-Key; ComponentLink2URL: https://datasheet.ciiva.com/14347/sbos099c-14347229.pdf?src-supplier=Avnet; ComponentLink2Description: https://datasheet.ciiva.com/14347/sbos099c-14347229.pdf?src-supplier=Avnet; Supplier Part Number: 296-41366-1-ND
footprint SOIC127P600X175-8N (SOIC, 8-Leads, Body 4.9x3.9mm (max), Pitch 1.27mm, IPC Medium Density)
pins: 1 NC, 2 IN-, 3 IN+, 4 VSS, 5 NC, 6 OUT, 7 VDD, 8 NC
text: –; +

## P82B96DR
designator U?
IC REDRIVER I2C 1CH 400KHZ 8SOIC
footprint SOIC127P600X175-8N (SOIC, 8-Leads, Body 4.9x3.9mm (max), Pitch 1.27mm, IPC Medium Density)
pins: 1 SX, 2 RX, 3 TX, 4 VSS, 5 TY, 6 RY, 7 SY, 8 VCC

## PAU06
designator U?  (mechanical)
RF MODULE 300MBPS 2.4GHZ SMA; Manufacturer: Panda Wireless; Manufacturer Part Number: PAU06

## POGOPAD
designator TP?
Test Point (POGOPAD)
footprint PogoPad (No Solder Paste)
pins: 1

## PS2501L-1-F3-L-A
designator OK?
OPTOISO 5KV TRANS 4SMD; Manufacturer: CEL; Number of Channels: 1; Voltage - Isolation: 5000Vrms; Current Transfer Ratio (Min): 200% @ 5mA; Current Transfer Ratio (Max): 400% @ 5mA; Rise / Fall Time (Typ): 3µs, 5µs; Input Type: DC; Output Type: Transistor; Voltage - Output (Max): 80V; Current - Output / Channel: 50mA; Voltage - Forward (Vf) (Typ): 1.17V; Current - DC Forward (If) (Max): 80mA; Vce Saturation (Max): 300mV; Packaging: Cut Tape (CT); Turn On / Turn Off Time (Typ): -; Operating Temperature: -55°C ~ 100°C; Mounting Type: Surface Mount; Package / Case: 4-SMD, Gull Wing; Supplier Device Package: 4-SMD; ComponentLink1URL: http://www.cel.com/pdf/datasheets/ps2501.pdf; ComponentLink1Description: http://www.cel.com/pdf/datasheets/ps2501.pdf; Supplier 1: Digi-Key; Supplier Part Number 1: PS2501L-1-F3-L-ACT-ND; Manufacturer Part Number: PS2501L-1-F3-L-A; RoHS: RoHS Compliant; Category: Isolators; Stock: 35357; Pricing: 1=0.73, 10=0.559, 25=0.468, 100=0.403, 250=0.35752, 500=0.3055, 1000=0.2405 (USD)
footprint 4 SMT DIP (Mounting Pad Dimensions for CEL/RENESAS OPTOS (PN2009))
pins: 1, 2, 3, 4

## PS2501L-4-E3-A
designator OK?
OPTOISO 5KV 4CH TRANS 16-SMD; Manufacturer: CEL; Number of Channels: 4; Voltage - Isolation: 5000Vrms; Current Transfer Ratio (Min): 80% @ 5mA; Current Transfer Ratio (Max): 600% @ 5mA; Rise / Fall Time (Typ): 3µs, 5µs; Input Type: DC; Output Type: Transistor; Voltage - Output (Max): 80V; Current - Output / Channel: 50mA; Voltage - Forward (Vf) (Typ): 1.17V; Current - DC Forward (If) (Max): 80mA; Vce Saturation (Max): 300mV; Packaging: Digi-Reel®; Turn On / Turn Off Time (Typ): -; Operating Temperature: -55°C ~ 100°C; Mounting Type: Surface Mount; Package / Case: 16-SMD, Gull Wing; Supplier Device Package: 16-SMD; ComponentLink1URL: http://www.cel.com/pdf/datasheets/ps2501.pdf; ComponentLink1Description: http://www.cel.com/pdf/datasheets/ps2501.pdf; Supplier 1: Digi-Key; Supplier Part Number 1: PS2501L-4-E3-ADKR-ND; Manufacturer Part Number: PS2501L-4-E3-A; RoHS: RoHS Compliant; Category: Isolators; Stock: 26252; Pricing: 1=1.94, 10=1.734, 25=1.2752, 100=1.122, 250=1.02, 500=0.8925 (USD)
footprint 16 SMT DIP (Mounting Pad Dimensions for CEL/RENESAS OPTOS (PN2009))
pins: 1, 2, 3, 4, 5, 6, 7, 8, 9, 10, 11, 12, 13, 14, 15, 16

## R TBD 0402
designator R?, comment TBD 0402
footprint RESC1005L (Chip Resistor, Body 1.1x0.5mm, IPC High Density)
footprint RESC1005L (Chip Resistor, Body 1.1x0.5mm, IPC High Density)
pins: 1, 2

## R TBD 0603
designator R?, comment TBD 0603
footprint RESC1608L (Chip Resistor, Body 1.6x0.8mm, IPC High Density)
footprint 0603 (0603 from SM-752 data)
footprint 0603_HV (Ernesto recommended land pattern.  26 mil between pads.)
pins: 1, 2

## R TBD 0612
designator R?, comment TBD 0612
footprint 0612 (Wide 1206 (3216 Metric), 0612)
pins: 1, 2

## R TBD 0805
designator R?, comment TBD 0805
footprint RESC2012L (Chip Resistor, Body 2.0x1.3mm, IPC High Density)
footprint 0805_HV (0805 with 30mil clearance between pads)
pins: 1, 2

## R TBD 1206
designator R?, comment TBD 1206
footprint RESC3225L (Chip Resistor, Body 3.2x2.5mm, IPC High Density)
footprint 1206 (1206 from SM-752 data)
pins: 1, 2

## R TBD 2512
designator R?, comment TBD 2512
footprint RESC6432L (Chip Resistor, Body 6.4x3.2mm, IPC High Density)
pins: 1, 2

## R TBD DIN 0204
designator R?, comment TBD 0204
footprint MMA0204 (Vishay Beyschlag)
pins: 1, 2

## RASPBERRYPI-2-MODB-1GB
designator U?, comment RASPBERRYPI-2-MODB-1GB.
RASPBERRY-PI - RASPBERRYPI-2-MODB-1GB. - SBC, RASPBERRY PI 2, MODEL B, 1GB; Silicon Manufacturer: Broadcom; Core Architecture: ARM; Core Sub-Architecture: ARM7; Silicon Core Number: BCM2836; Silicon Family Name: BCM2; Kit Contents: Raspberry Pi 2 Model B; No. of Bits: 32; Supplier 1: Newark; Manufacturer: RASPBERRY-PI; Manufacturer Part Number: RASPBERRYPI-2-MODB-1GB.; RoHS: YES; Stock 1: 4942; Pricing 1: 1=35 (USD); ComponentLink1URL: http://www.farnell.com/datasheets/1878224.pdf; ComponentLink1Description: http://www.farnell.com/datasheets/1878224.pdf; ComponentLink2URL: http://bcove.me/8vagyotc; ComponentLink2Description: http://bcove.me/8vagyotc; ComponentLink3URL: http://www.farnell.com/product360s/Pi2ModB1GB.php; ComponentLink3Description: http://www.farnell.com/product360s/Pi2ModB1GB.php; Supplier Part Number 1: 38Y6467
footprint RPI (Raspberry Pi B+ & Raspberry Pi 2)
footprint RPI MECH ONLY (Raspberry Pi B+ & Raspberry Pi 2)
footprint RPI (Raspberry Pi B+ & Raspberry Pi 2)
text: COMPUTE MODULE

## RLF12545T-100M5R1-PF
designator L?
FIXED IND 10UH 5.1A 12.4 MOHM; Supplier 1: Mouser; Supplier Part Number 1: 810-RLF12545T-100M; Supplier 2: Digi-Key; Supplier Part Number 2: 445-2947-1-ND
footprint RLF12545 (RLF12545 SERIES PWR INDUCTOR)
pins: 1, 2

## RN 0603 TBD MULTI
designator RN?, comment val
0603 x 4 Concave (1608 Metric)
footprint RES CTS 0603 x 4 Concave (1608 Metric) 742 SERIES (Resistor Network 0603 (4))
part A pins: 1, 8
part B pins: 2, 7
part C pins: 3, 6
part D pins: 4, 5

## RN 0603 x 2 TBD MULTI
designator RN?, comment val
0603 x 2 Concave (1608 Metric)
footprint RES CTS 0603 x 2 Concave (1608 Metric) 742 SERIES (1206 Package Resistor Network 0603 (2))
part A pins: 1, 4
part B pins: 2, 3

## RN TBD 0402
designator RN?, comment val
0402 x 4 Concave (1005 Metric)
footprint RES CTS 0402 x 4 Concave (1005 Metric) 741C08 SERIES (Resistor Network 0402)
pins: 1, 2, 3, 4, 5, 6, 7, 8

## RN TBD 0402 (2x0402)
designator RN?, comment val
0402 x 2 Concave (1005 Metric)
footprint RES CTS 0402 x 2 Convex (1005 Metric) 741X043 SERIES (Resistor Network 0402)
pins: 1, 2, 3, 4

## RN TBD 0603
designator RN?, comment val
0603 x 4 Concave (1608 Metric)
footprint RES CTS 0603 x 4 Concave (1608 Metric) 742 SERIES (Resistor Network 0603 (4))
pins: 1, 2, 3, 4, 5, 6, 7, 8

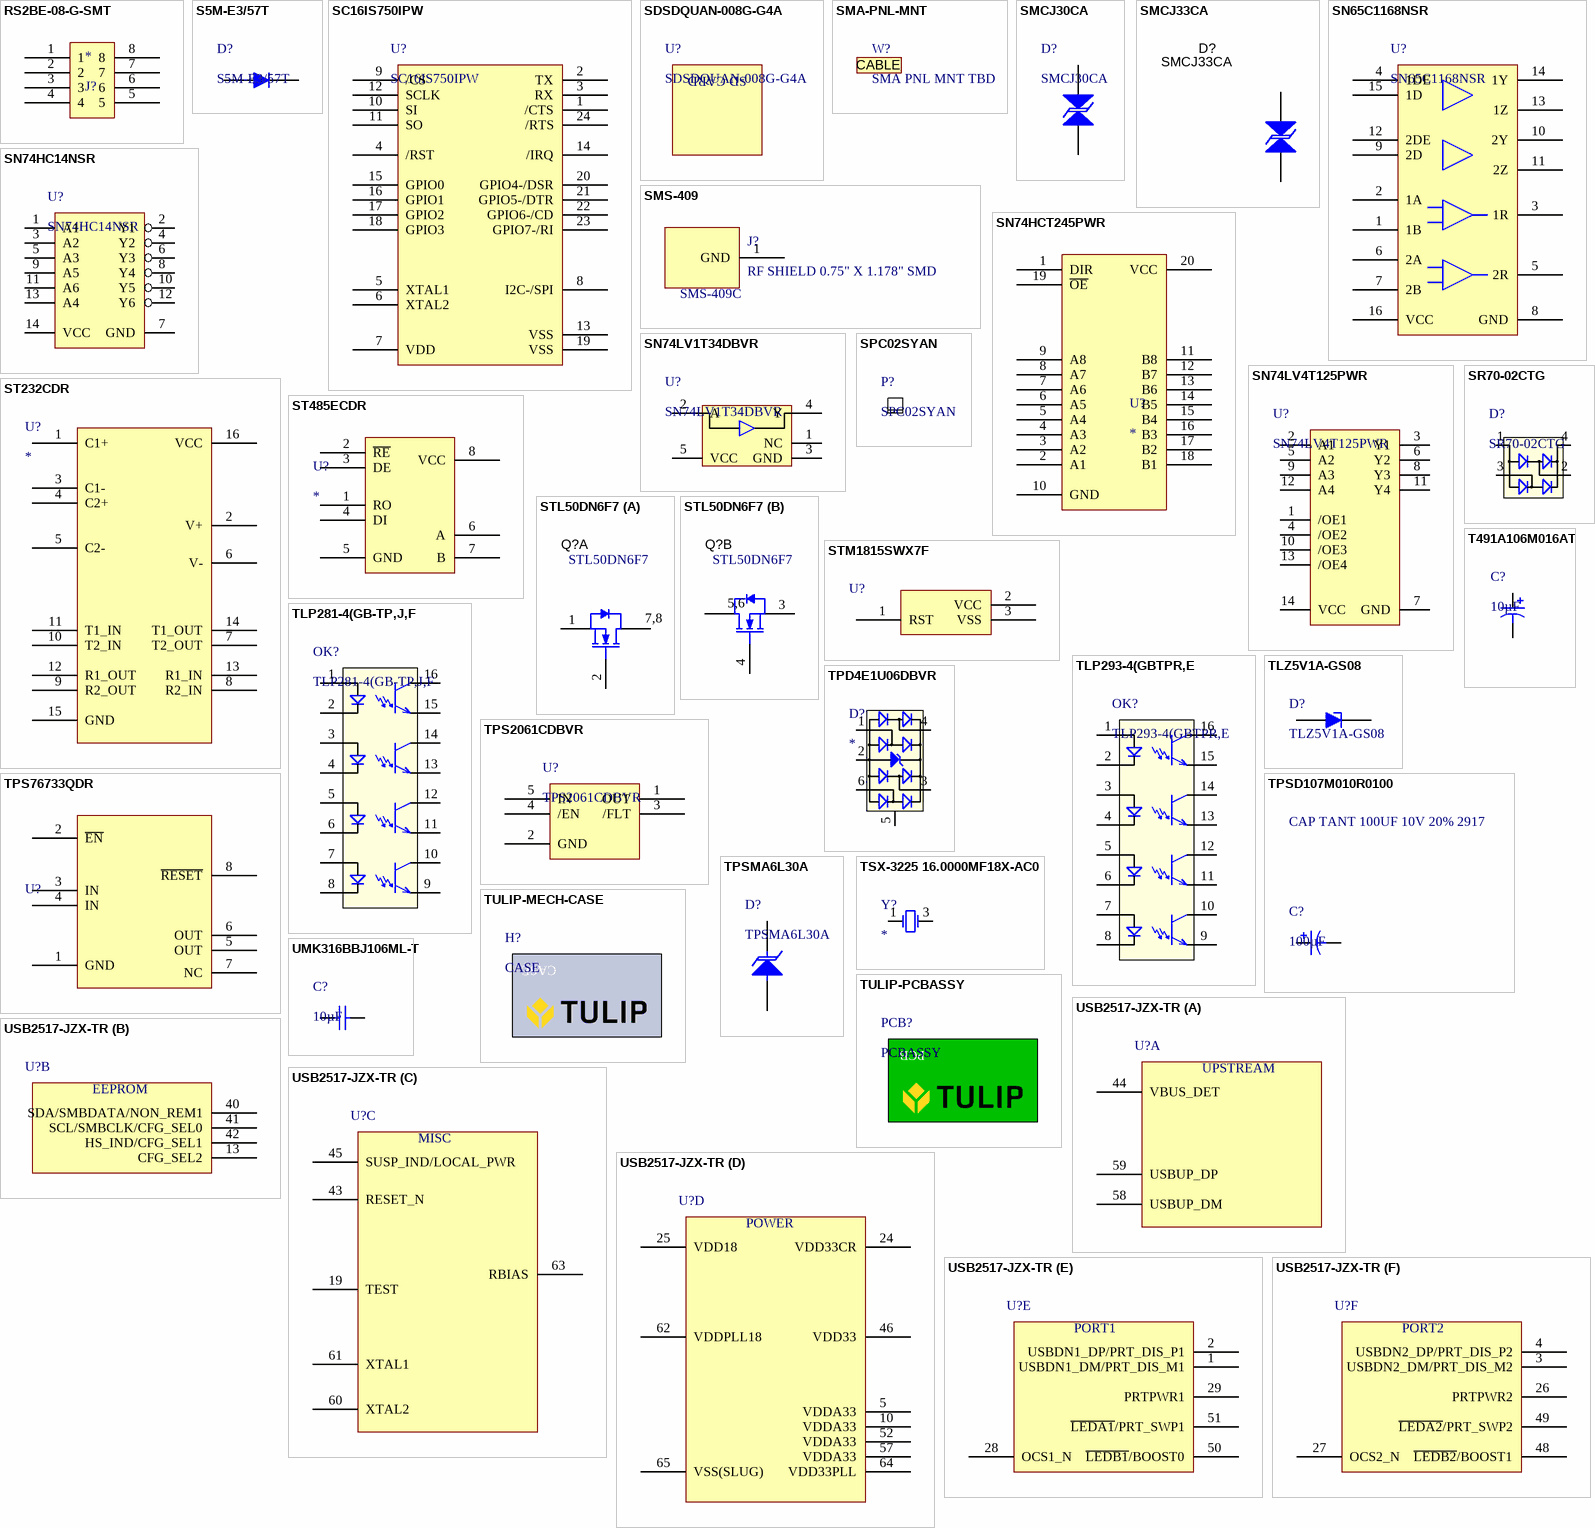
[diagram p6: symbols RS2BE-08-G-SMT to USB2517-JZX-TR]

## RS2BE-08-G-SMT
designator *, comment J?
RECEPTACLE STRIP 8P 2.54MM PITCH; Manufacturer 1: Adam Equipment; Manufacturer Part Number 1: RS2BE-08-G-SMT; Supplier 1: Digi-Key; Stock 1: 296; Pricing 1: 1=0.93000, 10=0.81900, 100=0.70660, 500=0.57812, 1000=0.51389, 5000=0.44965, 10000=0.42717 (USD); RoHS: No; Supplier Part Number 1: 2057-RS2BE-08-G-SMT-ND
footprint FHEADER SMD 8POS 2.54MM (CONN HEADER SMD 20POS 2.54MM)
pins: 1, 2, 3, 4, 5, 6, 7, 8

## S5M-E3/57T
designator D?
DIODE GEN PURP 1KV 5A DO214AB; Manufacturer: Vishay Semiconductor Diodes Division; Diode Type: Standard; Voltage - DC Reverse (Vr) (Max): 1000V (1kV); Voltage - Forward (Vf) (Max) @ If: 1.15V @ 5A; Speed: Standard Recovery >500ns, > 200mA (Io); Reverse Recovery Time (trr): 2.5µs; Current - Reverse Leakage @ Vr: 10µA @ 1000V; Capacitance @ Vr, F: 40pF @ 4V, 1MHz; Packaging: Cut Tape (CT); Current - Average Rectified (Io): 5A; Mounting Type: Surface Mount; Package / Case: DO-214AB, SMC; Supplier Device Package: DO-214AB, (SMC); Operating Temperature - Junction: -55°C ~ 150°C; ComponentLink1URL: http://www.vishay.com/docs/88931/s5a.pdf; ComponentLink1Description: http://www.vishay.com/docs/88931/s5a.pdf; Supplier 1: Digi-Key; Supplier Part Number 1: S5M-E3/57TGICT-ND; Manufacturer Part Number: S5M-E3/57T; RoHS: RoHS Compliant; Category: Discrete Semiconductor Products; Stock: 45679; Pricing: 1=0.45, 10=0.386, 100=0.2884 (USD)
footprint SMC
pins: 1, 2

## SC16IS750IPW
designator U?
IC UART I2C/SPI 24-TSSOP
footprint TSOP65P640X110-24N (TSOP, 24-Leads, Body 7.9x4.5mm (max), Pitch 0.65mm, IPC Medium Density)
pins: 1 /CTS, 2 TX, 3 RX, 4 /RST, 5 XTAL1, 6 XTAL2, 7 VDD (power), 8 I2C-/SPI, 9 /CS, 10 SI, 11 SO, 12 SCLK, 13 VSS (power), 14 /IRQ, 15 GPIO0, 16 GPIO1, 17 GPIO2, 18 GPIO3, 19 VSS (power), 20 GPIO4-/DSR, 21 GPIO5-/DTR, 22 GPIO6-/CD, 23 GPIO7-/RI, 24 /RTS

## SDSDQUAN-008G-G4A
designator U?  (mechanical)
MICRO SD HC 8GB SANDISK ULTRA 48MB/S; Manufacturer: SANDISK; Manufacturer Part Number: SDSDQUAN-008G-G4A
text: SD CARD

## SMA-PNL-MNT
designator W?, comment SMA PNL MNT TBD  (mechanical)
GENERIC PANEL MOUNT SMA
text: CABLE

## SMCJ30CA
designator D?
TVS DIODE 30VWM 48.4VC SMC; Manufacturer: Littelfuse Inc.; Type: Zener; Bidirectional Channels: 1; Voltage - Reverse Standoff (Typ): 30V; Voltage - Breakdown (Min): 33.3V; Voltage - Clamping (Max) @ Ipp: 48.4V; Current - Peak Pulse (10/1000µs): 31A; Power - Peak Pulse: 1500W (1.5kW); Power Line Protection: No; Packaging: Digi-Reel®; Unidirectional Channels: -; Applications: General Purpose; Capacitance @ Frequency: -; Operating Temperature: -55°C ~ 150°C (TJ); Mounting Type: Surface Mount; Package / Case: DO-214AB, SMC; Supplier Device Package: DO-214AB (SMCJ); ComponentLink1URL: http://www.littelfuse.com/products/tvs-diodes/surface-mount/~/media/electronics/datasheets/tvs_diodes/littelfuse_tvs_diode_smcj_datasheet.pdf.pdf; ComponentLink1Description: http://www.littelfuse.com/products/tvs-diodes/surface-mount/~/media/electronics/datasheets/tvs_diodes/littelfuse_tvs_diode_smcj_datasheet.pdf.pdf; Supplier 1: Digi-Key; Supplier Part Number 1: SMCJ30CALFDKR-ND; Manufacturer Part Number: SMCJ30CA; RoHS: RoHS Compliant; Category: Circuit Protection; Stock: 22182; Pricing: 1=0.73, 10=0.641, 25=0.5668, 100=0.4939, 250=0.42992, 500=0.36596, 1000=0.29312 (USD)
footprint SMC
pins: 1, 2

## SMCJ33CA
designator D?
TVS DIODE 33VWM 53.3VC SMC; Manufacturer: Bourns; U/M: EA; Power_W: 1500; Vr_V: 33; Value1: 1500W; CompType: TVS; SymbolVersion: 2012-01-13; PartNumber: SMCJ33CA; PackageReference: SMC; Vz_V: N/A; MountType: SMT; RoHS: Y; ComponentLink1Description: Datasheet link; ComponentLink1URL: http://www.bourns.com/data/global/pdfs/SMCJ.pdf; Published: 2008-10-08; Publisher: Texas Instruments; LatestRevisionDate: 2014-03-12; LatestRevisionNote: Updated Supplier Data; Supplier 1: Digi-Key; Supplier Part Number 1: SMCJ33CABCT-ND; Supplier 2: Farnell; Supplier Part Number 2: 1815176; Supplier 3: Newark; Supplier Part Number 3: 67R1748
footprint SMC
pins: 1, 2

## SMS-409
designator J?, comment RF SHIELD 0.75" X 1.178" SMD  Manufacturer Part Number: SMS-409C
Manufacturer: Leader Tech FerriShield; Supplier 1: Digi-Key; Stock 1: 866; Pricing 1: 1=0.58000, 10=0.51300, 25=0.48240, 100=0.39350, 250=0.36556, 500=0.31110, 1000=0.24888, 2500=0.22555, 5000=0.20999 (USD); RoHS: No; Length: 29.92mm; Width: 19.05mm; Depth: 2.01mm; REACH SVHC: No SVHC; ComponentLink1URL: https://leadertechinc.com/wp-content/uploads/2016/04/SMS-409-REV-A.pdf?src-supplier=Digi-Key; ComponentLink1Description: https://leadertechinc.com/wp-content/uploads/2016/04/SMS-409-REV-A.pdf?src-supplier=Digi-Key; ComponentLink2URL: http://www.farnell.com/datasheets/2118444.pdf?src-supplier=Element14; ComponentLink2Description: http://www.farnell.com/datasheets/2118444.pdf?src-supplier=Element14; Supplier Part Number 1: 1798-1220-ND
footprint SMS-409C (RF SHIELD 0.75" X 1.178" SMD)
pins: 1 GND, 2 GND, 3 GND, 4 GND, 5 GND, 6 GND, 7 GND, 8 GND, 9 GND, 10 GND, 11 GND, 12 GND, 13 GND, 14 GND, 15 GND, 16 GND

## SN65C1168NSR
designator U?
IC DIFF DVR/RCVR DUAL 16SO; Function: Transceiver; Data Rate: 10 Mb/s; Brand: Texas Instruments; Number of Drivers: 1 Driver; Number of Receivers: 2 Receiver; Operating Supply Current: 9 mA; Operating Supply Voltage: 5 V; Protocol: RS422, RS485; Number of Drivers/Receivers: 2/2; Duplex: Full; Receiver Hysteresis: 60mV; Voltage - Supply: 4.5 V ~ 5.5 V; Category 2: Integrated Circuits (ICs); Supplier 1: Digi-Key; Supplier Part Number 1: 296-31716-6-ND; Supplier 2: Digi-Key; Supplier Part Number 2: 296-31716-1-ND; Supplier 3: Mouser; Supplier Part Number 3: 595-SN65C1168NSR; Package / Case: SOP-16; Mounting Style: SMD/SMT; Product: RS-422 Transceivers; Series: SN65C1168; Packaging: Reel; Maximum Operating Temperature: + 85 C; Minimum Operating Temperature: - 40 C; Product Category: RS-422 Interface ICs; Standard Pack Qty: 2000; RoHS - Mouser: Y; Minimum Order Quantity: 1; Reeling: True; RoHS: RoHS Compliant; Manufacturer: Texas Instruments; Manufacturer Part Number: SN65C1168NSR; Supplier Part Number: 595-SN65C1168NSR; Supplier: Mouser; Category: RS-422 Interface IC; Type: Transceiver; Operating Temperature: -40°C ~ 85°C; Mounting Type: Surface Mount; Supplier Device Package: 16-SO; ComponentLink1URL: http://www.ti.com/lit/ds/symlink/sn65c1168.pdf; ComponentLink1Description: http://www.ti.com/lit/ds/symlink/sn65c1168.pdf; Manufacturer 2: Texas Instruments; Manufacturer Part Number 2: SN65C1168NSR; RoHS 2: RoHS Compliant; Description 2: IC DIFF DVR/RCVR DUAL 16SO; Stock 2: 7891; Pricing 2: 1=1.82, 10=1.638, 100=1.314, 500=1.08, 1000=0.894 (USD)
footprint SOIC127P780X265-16N (SOIC, 16-Leads, Body 10.5x5.6mm (max), Pitch 1.27mm, IPC Medium Density)
pins: 1 1B, 2 1A, 3 1R, 4 1DE, 5 2R, 6 2A, 7 2B, 8 GND (power), 9 2D, 10 2Y, 11 2Z, 12 2DE, 13 1Z, 14 1Y, 15 1D, 16 VCC

## SN74HC14NSR
designator U?
IC HEX INVERTER SHMT-TRGR 14SO; Manufacturer: Texas Instruments; Number of Circuits: 6; Voltage - Supply: 2 V ~ 6 V; Current - Quiescent (Max): 2µA; Current - Output High, Low: 5.2mA, 5.2mA; Logic Level - Low: 0.3 V ~ 1.2 V; Logic Level - High: 1.5 V ~ 4.2 V; Max Propagation Delay @ V, Max CL: 21ns @ 6V, 50pF; Packaging: Cut Tape (CT); Logic Type: Inverter; Number of Inputs: 6; Features: Schmitt Trigger; Operating Temperature: -40°C ~ 85°C; Mounting Type: Surface Mount; Supplier Device Package: 14-SO; Package / Case: 14-SOIC (0.209", 5.30mm Width); ComponentLink1URL: http://www.ti.com/lit/ds/symlink/sn74hc14.pdf; ComponentLink1Description: http://www.ti.com/lit/ds/symlink/sn74hc14.pdf; Supplier 1: Digi-Key; Supplier Part Number 1: 296-12887-1-ND; Manufacturer Part Number: SN74HC14NSR; RoHS: RoHS Compliant; Category: Integrated Circuits (ICs); Stock: 6321; Pricing: 1=0.41, 10=0.352, 100=0.263, 500=0.20658, 1000=0.15925 (USD); Supplier 2: Mouser; Supplier Part Number 2: 595-SN74HC14NSR
footprint SOIC14 (SOIC, 14-Leads, Body 8.65x3.90mm, Pitch 1.27mm, IPC High Density)
pins: 1 A1, 2 Y1, 3 A2, 4 Y2, 5 A3, 6 Y3, 7 GND (power), 8 Y4, 9 A5, 10 Y5, 11 A6, 12 Y6, 13 A4, 14 VCC (power)